# Altium footprint library WBZ451PE-I.PcbLib: 1 footprints
Each footprint in its own frame and in the unit in brackets; x right, y up, seen from the top. Pads: shape width x height; smd on the part's side, far side on the other; paste and mask are expansions set on the pad; w line width, h text height; cw(c..) or ccw(c..) is an arc to the next point about the centre after c.
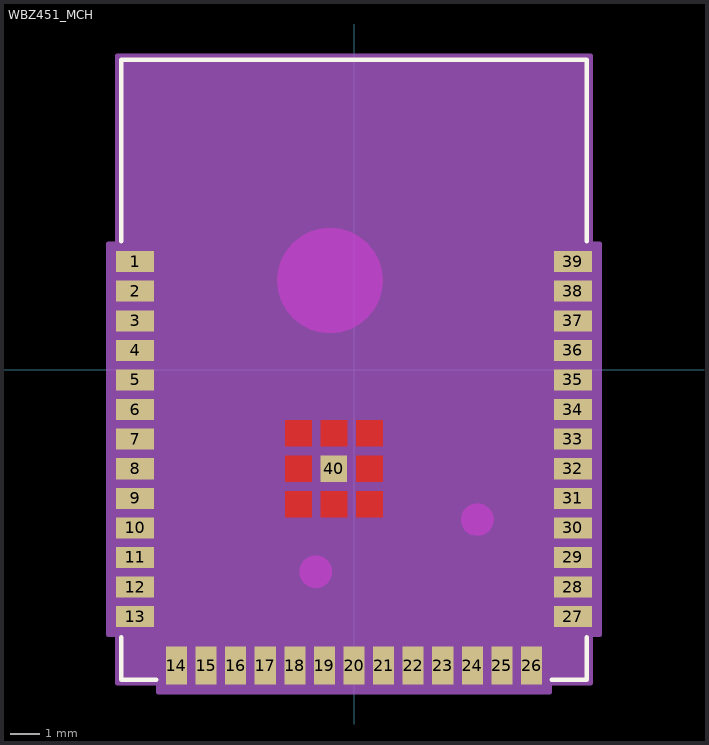
[diagram p0: the footprint, top view; thin cyan lines are the x and y axes]

## WBZ451_MCH [mil]
pads (40):
  rect 51x28 smd paste+0 mask+0: 1(-291.34,143.7) 2(-291.34,104.33) 3(-291.34,64.96) 4(-291.34,25.59) 5(-291.34,-13.78) 6(-291.34,-53.15) 7(-291.34,-92.52) 8(-291.34,-131.89) 9(-291.34,-171.26) 10(-291.34,-210.63) 11(-291.34,-250) 12(-291.34,-289.37) 13(-291.34,-328.74) 27(291.34,-328.74) 28(291.34,-289.37) 29(291.34,-250) 30(291.34,-210.63) 31(291.34,-171.26) 32(291.34,-131.89) 33(291.34,-92.52) 34(291.34,-53.15) 35(291.34,-13.78) 36(291.34,25.59) 37(291.34,64.96) 38(291.34,104.33) 39(291.34,143.7)
  rect 28x51 smd paste+0 mask+0: 14(-236.22,-393.7) 15(-196.85,-393.7) 16(-157.48,-393.7) 17(-118.11,-393.7) 18(-78.74,-393.7) 19(-39.37,-393.7) 20(0,-393.7) 21(39.37,-393.7) 22(78.74,-393.7) 23(118.11,-393.7) 24(157.48,-393.7) 25(196.85,-393.7) 26(236.22,-393.7)
  rect 35x35 smd paste+0 mask+0: 40(-26.77,-131.89)
Top Layer:
  region: -9.27,-196.63 -9.27,-161.63 -44.27,-161.63 -44.27,-196.63
  region: 37.97,-196.63 37.97,-161.63 2.97,-161.63 2.97,-196.63
  region: -56.52,-196.63 -56.52,-161.63 -91.52,-161.63 -91.52,-196.63
  region: 37.97,-149.39 37.97,-114.39 2.97,-114.39 2.97,-149.39
  region: -56.52,-149.39 -56.52,-114.39 -91.52,-114.39 -91.52,-149.39
  region: -56.52,-102.15 -56.52,-67.15 -91.52,-67.15 -91.52,-102.15
  region: 37.97,-102.15 37.97,-67.15 2.97,-67.15 2.97,-102.15
  region: -9.27,-102.15 -9.27,-67.15 -44.27,-67.15 -44.27,-102.15
Top Overlay:
  lines w6: -310,-355.84 -310,-412.5 -263.32,-412.5 ; -310,170.8 -310,412.5 310,412.5 310,170.8 ; 263.32,-412.5 310,-412.5 310,-355.84
Top Paste:
  region: -9.27,-196.63 -9.27,-161.63 -44.27,-161.63 -44.27,-196.63
  region: 37.97,-196.63 37.97,-161.63 2.97,-161.63 2.97,-196.63
  region: 37.97,-149.39 37.97,-114.39 2.97,-114.39 2.97,-149.39
  region: 37.97,-102.15 37.97,-67.15 2.97,-67.15 2.97,-102.15
  region: -9.27,-102.15 -9.27,-67.15 -44.27,-67.15 -44.27,-102.15
  region: -56.52,-102.15 -56.52,-67.15 -91.52,-67.15 -91.52,-102.15
  region: -56.52,-196.63 -56.52,-161.63 -91.52,-161.63 -91.52,-196.63
  region: -56.52,-149.39 -56.52,-114.39 -91.52,-114.39 -91.52,-149.39
Top Solder:
  region: -56.52,-149.39 -56.52,-114.39 -91.52,-114.39 -91.52,-149.39
  region: -56.52,-196.63 -56.52,-161.63 -91.52,-161.63 -91.52,-196.63
  region: -9.27,-196.63 -9.27,-161.63 -44.27,-161.63 -44.27,-196.63
  region: 37.97,-196.63 37.97,-161.63 2.97,-161.63 2.97,-196.63
  region: 37.97,-149.39 37.97,-114.39 2.97,-114.39 2.97,-149.39
  region: 37.97,-102.15 37.97,-67.15 2.97,-67.15 2.97,-102.15
  region: -9.27,-102.15 -9.27,-67.15 -44.27,-67.15 -44.27,-102.15
  region: -56.52,-102.15 -56.52,-67.15 -91.52,-67.15 -91.52,-102.15
Keep-Out Layer:
  region: 185.26,-203.8 185.67,-199.61 185.26,-195.41 184.04,-191.38 182.05,-187.66 179.38,-184.4 176.12,-181.73 172.4,-179.74 168.37,-178.52 164.17,-178.11 159.98,-178.52 155.95,-179.74 152.23,-181.73 148.97,-184.4 146.3,-187.66 144.31,-191.38 143.09,-195.41 142.67,-199.61 143.09,-203.8 144.31,-207.83 146.3,-211.55 148.97,-214.81 152.23,-217.48 155.95,-219.47 159.98,-220.69 164.17,-221.11 168.37,-220.69 172.4,-219.47 176.12,-217.48 179.38,-214.81 182.05,-211.55 184.04,-207.83
  region: -29.7,-273.09 -29.29,-268.9 -29.7,-264.7 -30.92,-260.67 -32.91,-256.95 -35.58,-253.69 -38.84,-251.02 -42.56,-249.03 -46.59,-247.81 -50.79,-247.4 -54.98,-247.81 -59.02,-249.03 -62.73,-251.02 -65.99,-253.69 -68.66,-256.95 -70.65,-260.67 -71.87,-264.7 -72.29,-268.9 -71.87,-273.09 -70.65,-277.13 -68.66,-280.84 -65.99,-284.1 -62.73,-286.77 -59.02,-288.76 -54.98,-289.98 -50.79,-290.4 -46.59,-289.98 -42.56,-288.76 -38.84,-286.77 -35.58,-284.1 -32.91,-280.84 -30.92,-277.13
  region: 36.77,104.85 38.11,118.5 36.77,132.16 32.78,145.29 26.31,157.39 17.61,168 7,176.71 -5.1,183.18 -18.23,187.16 -31.89,188.5 -45.55,187.16 -58.68,183.18 -70.78,176.71 -81.39,168 -90.09,157.39 -96.56,145.29 -100.54,132.16 -101.89,118.5 -100.54,104.85 -96.56,91.72 -90.09,79.61 -81.39,69.01 -70.78,60.3 -58.68,53.83 -45.55,49.85 -31.89,48.5 -18.23,49.85 -5.1,53.83 7,60.3 17.61,69.01 26.31,79.61 32.78,91.72
Mechanical 13:
  lines w1: -305,357.5 -255,407.5 ; -305,-407.5 -305,407.5 305,407.5 305,-407.5 -305,-407.5
  text "*" at -253.34,118.7 h50
Mechanical 15:
  region: 260.22,-429.2 260.22,-417.5 315,-417.5 315,-352.74 326.84,-352.74 326.84,167.7 315,167.7 315,417.5 -315,417.5 -315,167.7 -326.84,167.7 -326.84,-352.74 -315,-352.74 -315,-417.5 -260.22,-417.5 -260.22,-429.2
  lines w6: -326.84,-352.74 -315,-352.74 -315,-417.5 -260.22,-417.5 -260.22,-429.2 260.22,-429.2 260.22,-417.5 315,-417.5 315,-352.74 326.84,-352.74 326.84,167.7 315,167.7 315,417.5 -315,417.5 -315,167.7 -326.84,167.7 -326.84,-352.74
3D body "WBZ451_LGA_REV3P0-WOUFL.step": height 118.11, standoff 3.91, extent -305.12,-401.57 305.12,413.39